# Altium footprint library CRGH0805F4K7.PcbLib: 1 footprints
Each footprint in its own frame and in the unit in brackets; x right, y up, seen from the top. Pads: shape width x height; smd on the part's side, far side on the other; paste and mask are expansions set on the pad; w line width, h text height; cw(c..) or ccw(c..) is an arc to the next point about the centre after c.
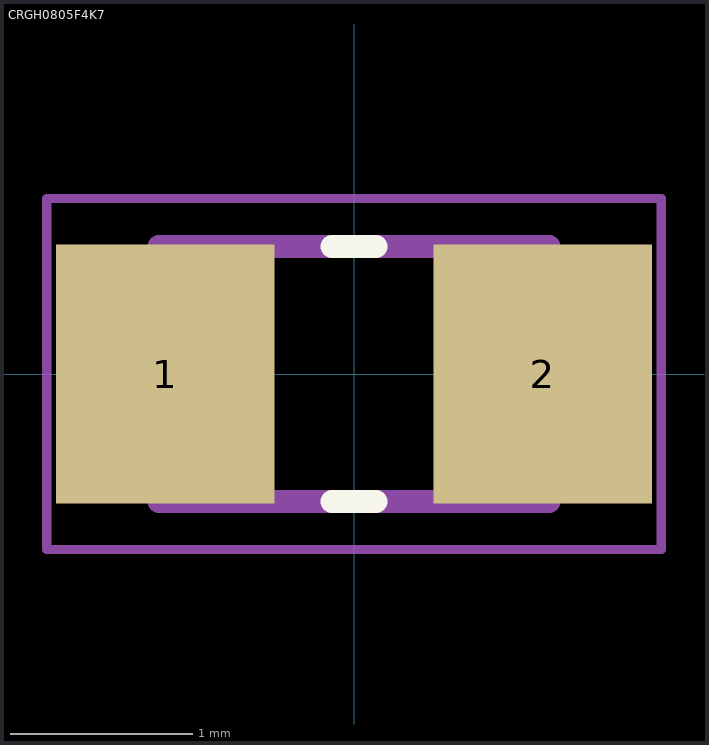
[diagram p0: the footprint, top view; thin cyan lines are the x and y axes]

## CRGH0805F4K7 [mm]
pads (2):
  rect 1.2x1.42 smd: 1(-1.035,0) 2(1.035,0)
Top Overlay:
  lines w0.127: -0.12,-0.7 0.12,-0.7 ; -0.12,0.7 0.12,0.7
Mechanical 13:
  lines w0.127: -1.07,-0.7 -1.07,0.7 1.07,0.7 1.07,-0.7 -1.07,-0.7
Mechanical 15:
  lines w0.05: -1.685,-0.962 -1.685,0.962 1.685,0.962 1.685,-0.962 -1.685,-0.962
3D body "CRGH0805F4K7.STEP": height 0.65, standoff 0, extent -1,-0.625 1,0.625